# Altium schematic symbol library ECS-2520S33-250-EN-TR.SchLib: 1 symbol
Pins are listed as number, name and electrical type; pins without a type are passive.

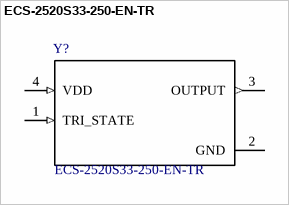
[diagram p0: symbol ECS-2520S33-250-EN-TR]

## ECS-2520S33-250-EN-TR
designator Y?
/ Miniature Crystal Oscillator HCMOS Tight Stability 3.3V 25MHz Â±15ppm -40 to 85Â°C 2.5x2x0.9mm SMD T/R /; MF: ECS Inc.; SnapEDA_Link: https://www.snapeda.com/parts/ECS-2520S33-250-EN-TR/ECS%20Inc./view-part/?ref=snap; MP: ECS-2520S33-250-EN-TR; Availability: Unavailable; Price: None; Package: SMD-4 ECS International; Value: *
footprint *OSC_ECS-2520S33-250-EN-TR
pins: 1 TRI_STATE (in), 2 GND (power), 3 OUTPUT (out), 4 VDD (in)